# Altium schematic symbol library FA-238_25.0000MB-K3.SchLib: 1 symbol
Pins are listed as number, name and electrical type; pins without a type are passive.

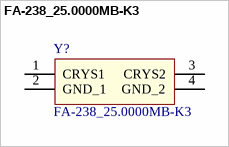
[diagram p0: symbol FA-238_25.0000MB-K3]

## FA-238_25.0000MB-K3
designator Y?
Crystals 25MHz 50ppm 10pF -20C +70C; Manufacturer_Name: Epson Timing; Manufacturer_Part_Number: FA-238 25.0000MB-K3; Mouser Part Number: 732-FA238-25B-K3; Datasheet Link: https://componentsearchengine.com/Datasheets/1/FA-238 25.0000MB-K3.pdf
footprint EPSON-FA-238
pins: 1 CRYS1, 2 GND_1, 3 CRYS2, 4 GND_2